# EAGLE library part MICROSD_CONN (library walkgeek-eagle)
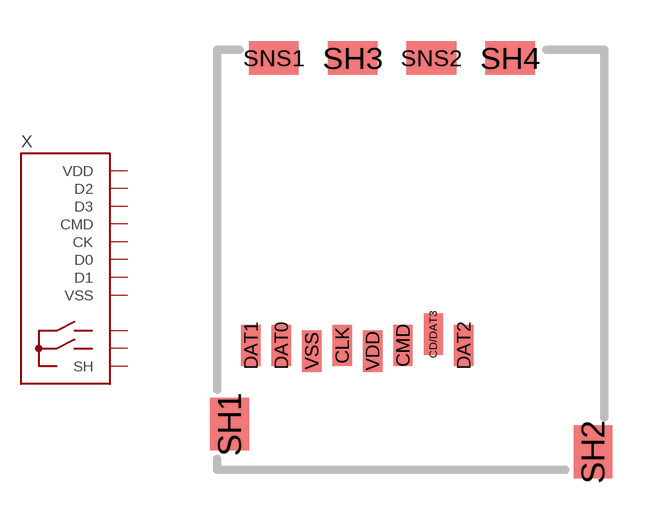
[diagram p3: symbol with the pads of TFC-WPCE-08; footprint TFC-WPCE-08]

Designator prefix X

## MICROSD_CONN  [TFC-WPCE-08]
CD/DAT3  D3
CLK  CK  in
CMD  CMD
DAT0  D0
DAT1  D1
DAT2  D2
SH1  SH  pwr
SH2  SH  pwr
SH3  SH  pwr
SH4  SH  pwr
SNS1  SNS1  pas
SNS2  SNS2  pas
VDD  VDD  pwr
VSS  VSS  pwr

## Footprint TFC-WPCE-08 (pad centres in mm)
smd 0.7 x 1.5: CD/DAT3 7.82,-10.3; CLK 4.52,-10.7; CMD 6.72,-10.7; DAT0 2.32,-10.7; DAT1 1.22,-10.7; DAT2 8.92,-10.7; VDD 5.62,-10.9; VSS 3.42,-10.9
smd 1.4 x 1.9: SH1 0.45,-13.55; SH2 13.6,-14.55
smd 1.8 x 1.2: SH3 4.9,-0.3; SH4 10.6,-0.3; SNS1 2.05,-0.3; SNS2 7.75,-0.3